# Altium schematic symbol library CH340E.SchLib: 1 symbol
Pins are listed as number, name and electrical type; pins without a type are passive.

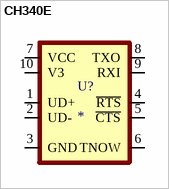
[diagram p0: symbol CH340E]

## CH340E
designator U?
USB to serial chip CH340; MF: WCH; MP: CH340E; SnapEDA_Link: https://www.snapeda.com/parts/CH340E/WCH/view-part/?ref=snap; Package: Package; Value: *; Check_prices: https://www.snapeda.com/parts/CH340E/WCH/view-part/?ref=eda
footprint CH340E
pins: 1 UD+ (io), 2 UD- (io), 3 GND (io), 4 ~{RTS} (io), 5 ~{CTS} (io), 6 TNOW (io), 7 VCC (io), 8 TXO (io), 9 RXI (io), 10 V3 (io)